# Altium footprint library SW_SLIDE_RA_TH_DPDT.PcbLib: 1 footprints
Each footprint in its own frame and in the unit in brackets; x right, y up, seen from the top. Pads: shape width x height; smd on the part's side, far side on the other; paste and mask are expansions set on the pad; w line width, h text height; cw(c..) or ccw(c..) is an arc to the next point about the centre after c.
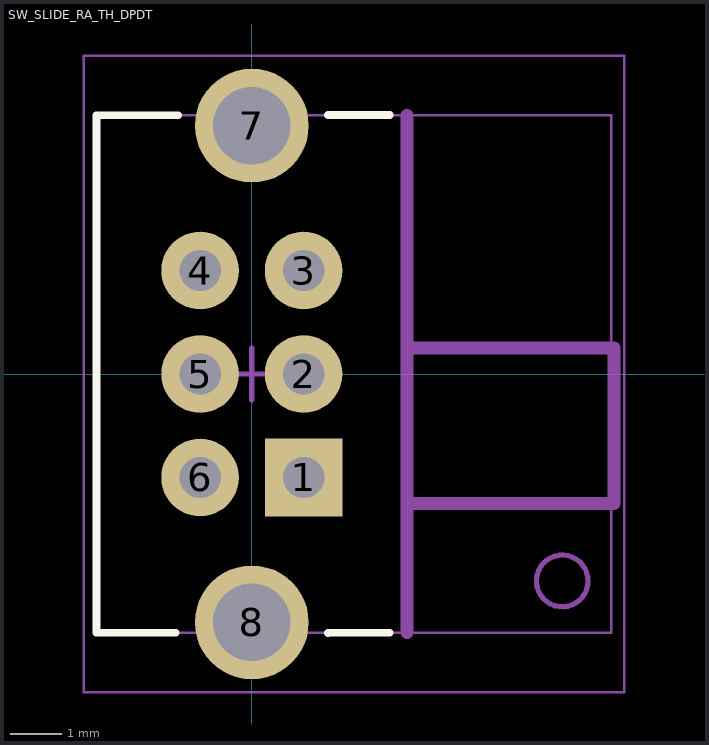
[diagram p0: the footprint, top view; thin cyan lines are the x and y axes]

## SW_SLIDE_RA_TH_DPDT [mm] "SW_SLIDE_RA_TH_DPDT"
pads (8):
  rect 1.5x1.5 hole 0.8: 1(1,-2)
  round 1.5 hole 0.8: 2(1,0) 3(1,2) 4(-1,2) 5(-1,0) 6(-1,-2)
  round 2.2 hole 1.5: 7(0,4.8) 8(0,-4.8)
Top Overlay:
  lines w0.15: -1.473,-5 -3,-5 -3,5 -1.422,5 ; 1.473,-5.004 2.667,-5 ; 1.473,5.004 2.667,5.004
Mechanical 1:
  lines w0.25: 3,-5 3,5 ; 3.008,0.5 7,0.5 7,-2.5 3.04,-2.5
  text "Off PCB Edge" at 4.556,0.762 h0.76
Top Assembly:
  circle w0.1: c6,-4 r0.5
  lines w0.05: 3,-5 3,5 ; -3,-5 6.95,-5 6.95,5 -3,5 -3,-5
  text ".Designator" at 6.357,1.285 h0.76
  text "Board Edge" at 2.733,-2.916 h0.5
Top Courtyard:
  lines w0.05: -3.25,-6.15 7.2,-6.15 7.2,6.15 -3.25,6.15 -3.25,-6.15
  lines w0.1: -0.5,0 0.5,0 ; 0,-0.5 0,0.5
3D body "EG2211.stp": height 3.71, standoff -3.39, extent -3,-5 6.95,5